# Altium schematic symbol library sram_memories.SchLib: 4 symbols
Pins are listed as number, name and electrical type; pins without a type are passive.

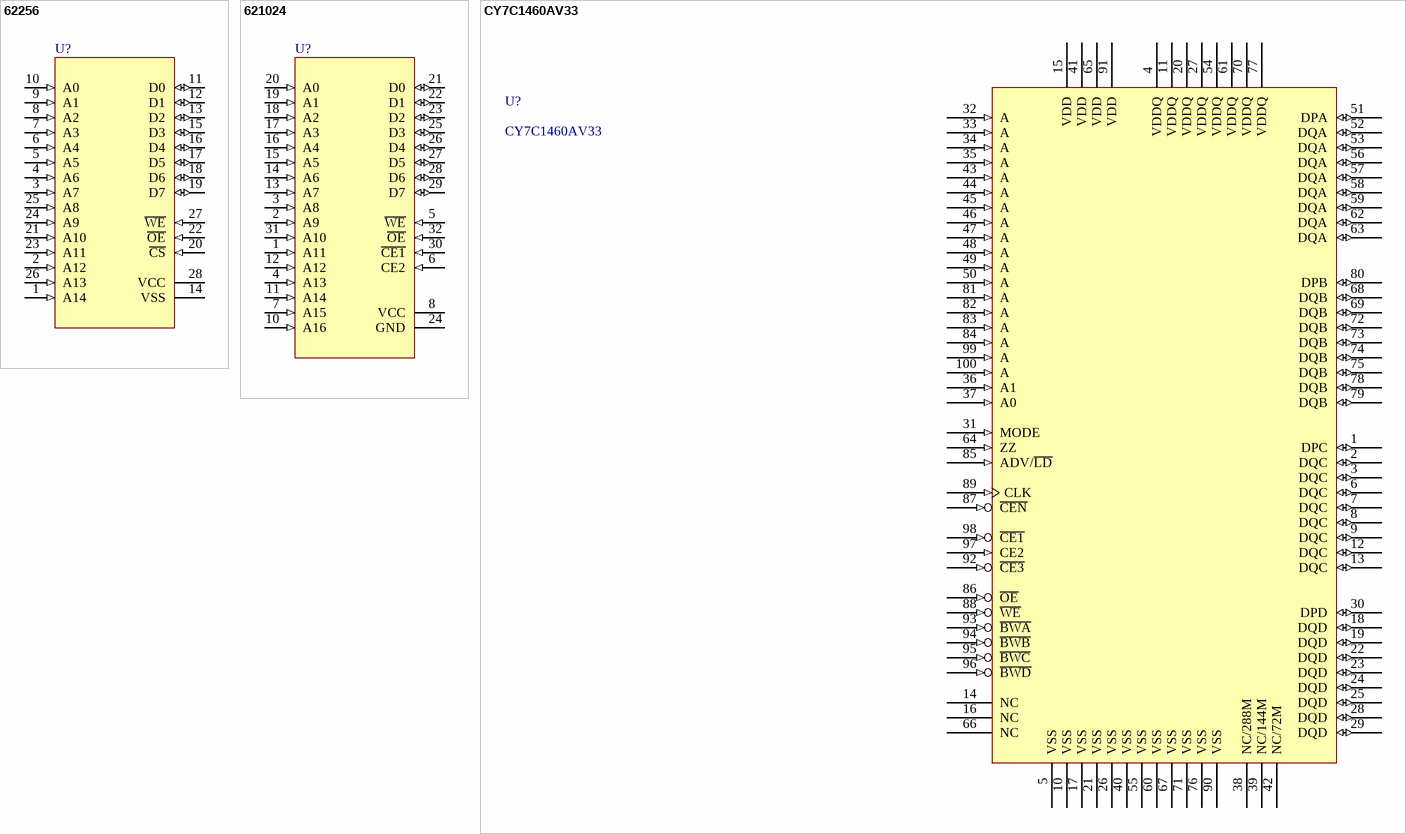
[diagram p0: symbols 62256 to CY7C1460AV33]

## 62256
designator U?
32Kx8 bit Low Power CMOS Static RAM; Published: 23-Jun-2006; PackageReference: SO-28
footprint SO28 (Small Outline; 28 Leads; Body Width 8.38 mm; Pitch 1.27 mm)
footprint DIP28W_MANUAL
pins: 1 A14 (in) "Address Input", 2 A12 (in) "Address Input", 3 A7 (in) "Address Input", 4 A6 (in) "Address Input", 5 A5 (in) "Address Input", 6 A4 (in) "Address Input", 7 A3 (in) "Address Input", 8 A2 (in) "Address Input", 9 A1 (in) "Address Input", 10 A0 (in) "Address Input", 11 D0 (io) "Data Input/Output", 12 D1 (io) "Data Input/Output", 13 D2 (io) "Data Input/Output", 14 VSS (power) "Ground", 15 D3 (io) "Data Input/Output", 16 D4 (io) "Data Input/Output", 17 D5 (io) "Data Input/Output", 18 D6 (io) "Data Input/Output", 19 D7 (io) "Data Input/Output", 20 ~{CS} (in) "Chip Select Input", 21 A10 (in) "Address Input", 22 ~{OE} (in) "Output Enable Input", 23 A11 (in) "Address Input", 24 A9 (in) "Address Input", 25 A8 (in) "Address Input", 26 A13 (in) "Address Input", 27 ~{WE} (in) "Write enable Input", 28 VCC (power) "Power (5V)"

## 621024
designator U?
128Kx8 bit Low Power CMOS Static RAM; Published: 06-Jul-2006; PackageReference: TSOP-32 TYPE I
footprint TSOP32 (32-lead (8 x 20 mm) Plastic Thin Small Outline  Package)
pins: 1 A11 (in) "Address Input", 2 A9 (in) "Address Input", 3 A8 (in) "Address Input", 4 A13 (in) "Address Input", 5 ~{WE} (in) "Write enable Input", 6 CE2 (in) "Chip Select Input", 7 A15 (in) "Address Input", 8 VCC (power) "Power (5V)", 10 A16 (in) "Address Input", 11 A14 (in) "Address Input", 12 A12 (in) "Address Input", 13 A7 (in) "Address Input", 14 A6 (in) "Address Input", 15 A5 (in) "Address Input", 16 A4 (in) "Address Input", 17 A3 (in) "Address Input", 18 A2 (in) "Address Input", 19 A1 (in) "Address Input", 20 A0 (in) "Address Input", 21 D0 (io) "Data Input/Output", 22 D1 (io) "Data Input/Output", 23 D2 (io) "Data Input/Output", 24 GND (power) "Ground", 25 D3 (io) "Data Input/Output", 26 D4 (io) "Data Input/Output", 27 D5 (io) "Data Input/Output", 28 D6 (io) "Data Input/Output", 29 D7 (io) "Data Input/Output", 30 ~{CE1} (in) "Chip Select Input", 31 A10 (in) "Address Input", 32 ~{OE} (in) "Output Enable Input"

## CY7C1460AV33
designator U?
36-Mbit (1 M × 36) Pipelined SRAM with NoBL™ Architecture
footprint TQFP100R (100-Pin Thin Plastic Quad Flat Pack Rectangular 0.65 mm Pitch, IPC Low Density)
pins: 1 DPC (io), 2 DQC (io), 3 DQC (io), 4 VDDQ (power), 5 VSS (power), 6 DQC (io), 7 DQC (io), 8 DQC (io), 9 DQC (io), 10 VSS (power), 11 VDDQ (power), 12 DQC (io), 13 DQC (io), 14 NC, 15 VDD (power), 16 NC, 17 VSS (power), 18 DQD (io), 19 DQD (io), 20 VDDQ (power), 21 VSS (power), 22 DQD (io), 23 DQD (io), 24 DQD (io), 25 DQD (io), 26 VSS (power), 27 VDDQ (power), 28 DQD (io), 29 DQD (io), 30 DPD (io), 31 MODE (in), 32 A (in), 33 A (in), 34 A (in), 35 A (in), 36 A1 (in), 37 A0 (in), 38 NC/288M, 39 NC/144M, 40 VSS (power), 41 VDD (power), 42 NC/72M, 43 A (in), 44 A (in), 45 A (in), 46 A (in), 47 A (in), 48 A (in), 49 A (in), 50 A (in), 51 DPA (io), 52 DQA (io), 53 DQA (io), 54 VDDQ (power), 55 VSS (power), 56 DQA (io), 57 DQA (io), 58 DQA (io), 59 DQA (io), 60 VSS (power), 61 VDDQ (power), 62 DQA (io), 63 DQA (io), 64 ZZ (in), 65 VDD (power), 66 NC, 67 VSS (power), 68 DQB (io), 69 DQB (io), 70 VDDQ (power), 71 VSS (power), 72 DQB (io), 73 DQB (io), 74 DQB (io), 75 DQB (io), 76 VSS (power), 77 VDDQ (power), 78 DQB (io), 79 DQB (io), 80 DPB (io), 81 A (in), 82 A (in), 83 A (in), 84 A (in), 85 ADV/~{LD} (in), 86 ~{OE} (in), 87 ~{CEN} (in), 88 ~{WE} (in), 89 CLK (in), 90 VSS (power), 91 VDD (power), 92 ~{CE3} (in), 93 ~{BWA} (in), 94 ~{BWB} (in), 95 ~{BWC} (in), 96 ~{BWD} (in), 97 CE2 (in), 98 ~{CE1} (in), 99 A (in), 100 A (in)

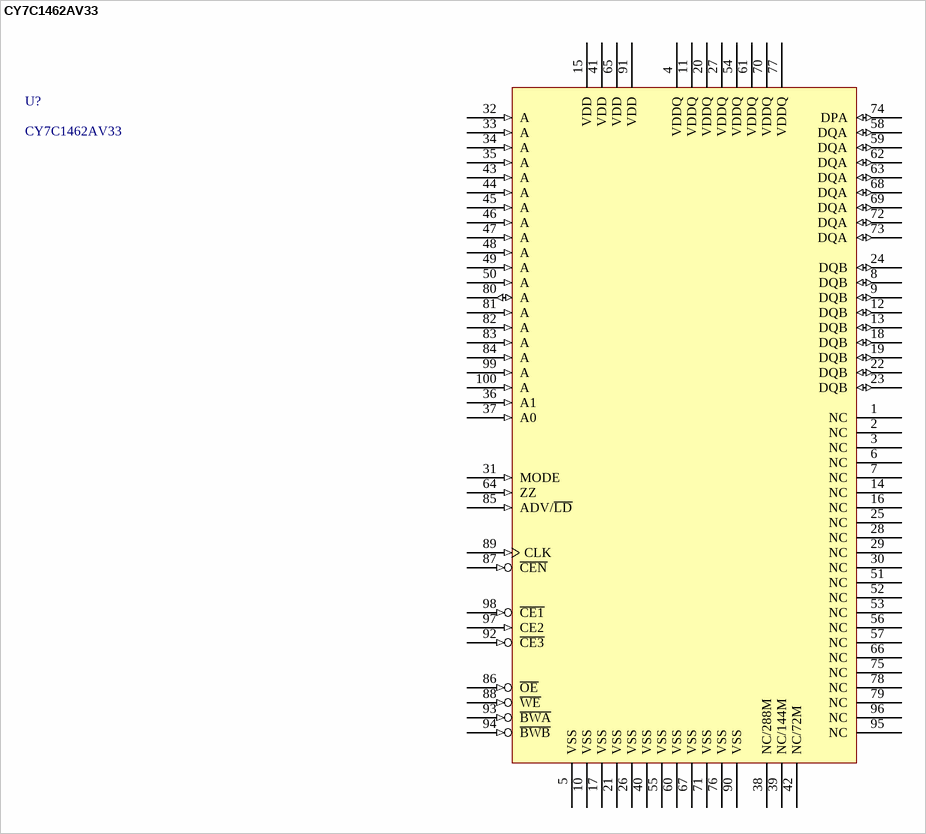
[diagram p1: symbol CY7C1462AV33]

## CY7C1462AV33
designator U?
36-Mbit (2 M × 18) Pipelined SRAM with NoBL™ Architecture
footprint TQFP100R (100-Pin Thin Plastic Quad Flat Pack Rectangular 0.65 mm Pitch, IPC Low Density)
pins: 1 NC, 2 NC, 3 NC, 4 VDDQ (power), 5 VSS (power), 6 NC, 7 NC, 8 DQB (io), 9 DQB (io), 10 VSS (power), 11 VDDQ (power), 12 DQB (io), 13 DQB (io), 14 NC, 15 VDD (power), 16 NC, 17 VSS (power), 18 DQB (io), 19 DQB (io), 20 VDDQ (power), 21 VSS (power), 22 DQB (io), 23 DQB (io), 24 DQB (io), 25 NC, 26 VSS (power), 27 VDDQ (power), 28 NC, 29 NC, 30 NC, 31 MODE (in), 32 A (in), 33 A (in), 34 A (in), 35 A (in), 36 A1 (in), 37 A0 (in), 38 NC/288M, 39 NC/144M, 40 VSS (power), 41 VDD (power), 42 NC/72M, 43 A (in), 44 A (in), 45 A (in), 46 A (in), 47 A (in), 48 A (in), 49 A (in), 50 A (in), 51 NC, 52 NC, 53 NC, 54 VDDQ (power), 55 VSS (power), 56 NC, 57 NC, 58 DQA (io), 59 DQA (io), 60 VSS (power), 61 VDDQ (power), 62 DQA (io), 63 DQA (io), 64 ZZ (in), 65 VDD (power), 66 NC, 67 VSS (power), 68 DQA (io), 69 DQA (io), 70 VDDQ (power), 71 VSS (power), 72 DQA (io), 73 DQA (io), 74 DPA (io), 75 NC, 76 VSS (power), 77 VDDQ (power), 78 NC, 79 NC, 80 A (io), 81 A (in), 82 A (in), 83 A (in), 84 A (in), 85 ADV/~{LD} (in), 86 ~{OE} (in), 87 ~{CEN} (in), 88 ~{WE} (in), 89 CLK (in), 90 VSS (power), 91 VDD (power), 92 ~{CE3} (in), 93 ~{BWA} (in), 94 ~{BWB} (in), 95 NC, 96 NC, 97 CE2 (in), 98 ~{CE1} (in), 99 A (in), 100 A (in)